# Altium footprint library SON-8_3.5x4.5mm.PcbLib: 1 footprints
Each footprint in its own frame and in the unit in brackets; x right, y up, seen from the top. Pads: shape width x height; smd on the part's side, far side on the other; paste and mask are expansions set on the pad; w line width, h text height; cw(c..) or ccw(c..) is an arc to the next point about the centre after c.
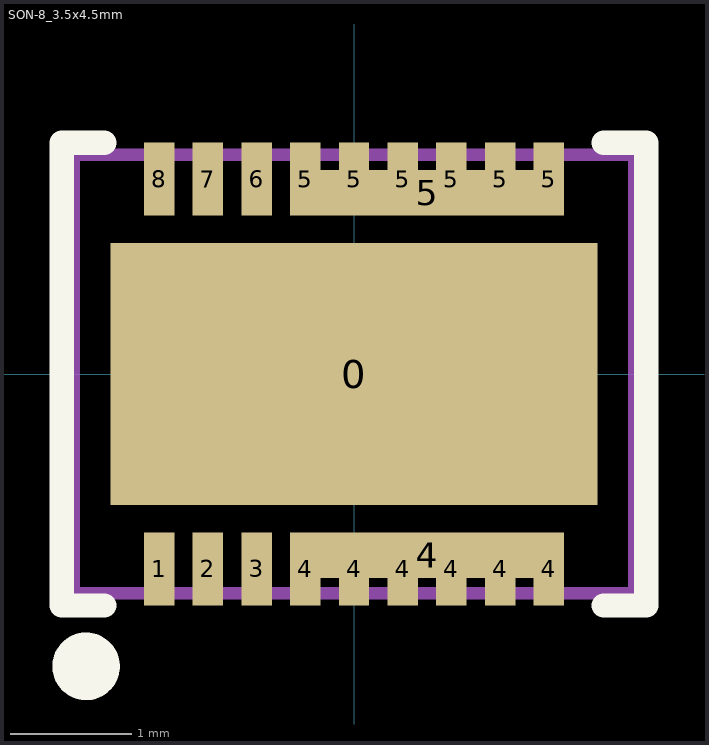
[diagram p0: the footprint, top view; thin cyan lines are the x and y axes]

## SON-8_3.5x4.5mm [mm]
pads (21):
  rect 4x2.15 smd mask+0.051: 0(0,0)
  rect 0.25x0.6 smd mask+0.051: 1(-1.6,-1.6) 2(-1.2,-1.6) 3(-0.8,-1.6) 4(-0.4,-1.6) 4(0,-1.6) 4(0.4,-1.6) 4(0.8,-1.6) 4(1.2,-1.6) 4(1.6,-1.6) 5(-0.4,1.6) 5(0,1.6) 5(0.4,1.6) 5(0.8,1.6) 5(1.2,1.6) 5(1.6,1.6) 6(-0.8,1.6) 7(-1.2,1.6) 8(-1.6,1.6)
  rect 2.25x0.375 smd mask+0.051: 4(0.6,-1.487) 5(0.6,1.488)
Top Overlay:
  circle w0.305: c-2.2,-2.4 r0.125
  lines w0.2: -2.05,-1.9 -2.4,-1.9 -2.4,1.9 -2.05,1.9 ; 2.05,-1.9 2.4,-1.9 2.4,1.9 2.05,1.9
Mechanical 13:
  lines w0.1: -2.3,-1.8 -2.3,1.8 2.3,1.8 2.3,-1.8 -2.3,-1.8